# EAGLE library part SAM4C32C-144 (library OBD-Interface)
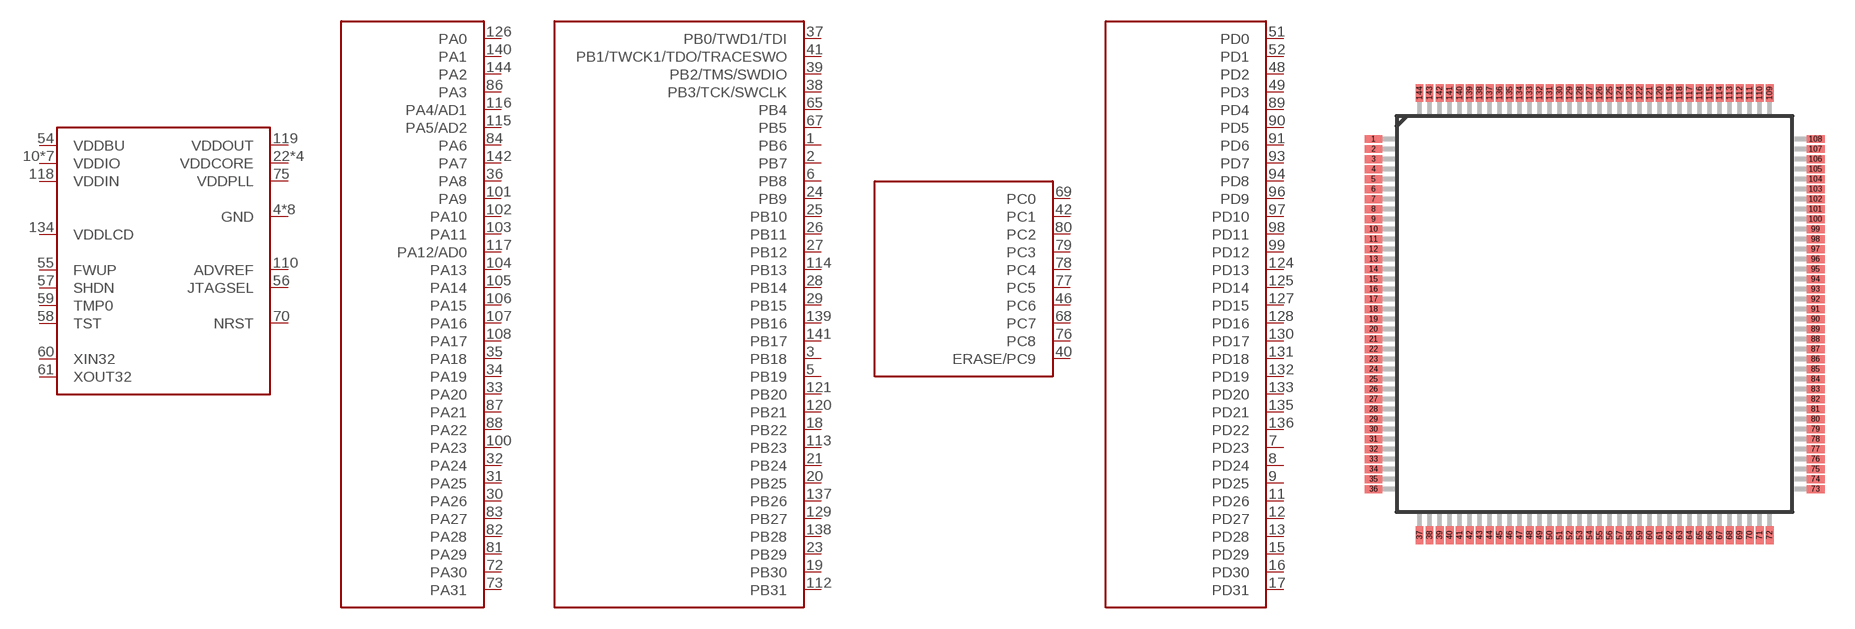
[diagram p1: symbol with the pads of LQFP-144; footprint LQFP-144]

Designator prefix -; gates G$1=SAM4C-144-POWER G$2=SAM4C-144-PIOA G$3=SAM4C-144-PIOB G$4=SAM4C-144-PIOC G$5=SAM4C-144-PIOD

## SAM4C32C-144  [LQFP-144]
1  G$3:PB6
2  G$3:PB7
3  G$3:PB18
4  G$1:GND  pwr
5  G$3:PB19
6  G$3:PB8
7  G$5:PD23
8  G$5:PD24
9  G$5:PD25
10  G$1:VDDIO  pwr
11  G$5:PD26
12  G$5:PD27
13  G$5:PD28
14  G$1:GND  pwr
15  G$5:PD29
16  G$5:PD30
17  G$5:PD31
18  G$3:PB22
19  G$3:PB30
20  G$3:PB25
21  G$3:PB24
22  G$1:VDDCORE  pwr
23  G$3:PB29
24  G$3:PB9
25  G$3:PB10
26  G$3:PB11
27  G$3:PB12
28  G$3:PB14
29  G$3:PB15
30  G$2:PA26
31  G$2:PA25
32  G$2:PA24
33  G$2:PA20
34  G$2:PA19
35  G$2:PA18
36  G$2:PA8
37  G$3:PB0/TWD1/TDI
38  G$3:PB3/TCK/SWCLK
39  G$3:PB2/TMS/SWDIO
40  G$4:ERASE/PC9
41  G$3:PB1/TWCK1/TDO/TRACESWO
42  G$4:PC1
46  G$4:PC6
47  G$1:VDDIO  pwr
48  G$5:PD2
49  G$5:PD3
50  G$1:GND  pwr
51  G$5:PD0
52  G$5:PD1
53  G$1:VDDIO  pwr
54  G$1:VDDBU  pwr
55  G$1:FWUP
56  G$1:JTAGSEL
57  G$1:SHDN
58  G$1:TST
59  G$1:TMP0
60  G$1:XIN32
61  G$1:XOUT32
64  G$1:GND  pwr
65  G$3:PB4
66  G$1:VDDCORE  pwr
67  G$3:PB5
68  G$4:PC7
69  G$4:PC0
70  G$1:NRST
71  G$1:VDDIO  pwr
72  G$2:PA30
73  G$2:PA31
74  G$1:GND  pwr
75  G$1:VDDPLL  pwr
76  G$4:PC8
77  G$4:PC5
78  G$4:PC4
79  G$4:PC3
80  G$4:PC2
81  G$2:PA29
82  G$2:PA28
83  G$2:PA27
84  G$2:PA6
85  G$1:VDDCORE  pwr
86  G$2:PA3
87  G$2:PA21
88  G$2:PA22
89  G$5:PD4
90  G$5:PD5
91  G$5:PD6
92  G$1:VDDIO  pwr
93  G$5:PD7
94  G$5:PD8
95  G$1:GND  pwr
96  G$5:PD9
97  G$5:PD10
98  G$5:PD11
99  G$5:PD12
100  G$2:PA23
101  G$2:PA9
102  G$2:PA10
103  G$2:PA11
104  G$2:PA13
105  G$2:PA14
106  G$2:PA15
107  G$2:PA16
108  G$2:PA17
109  G$1:VDDIO  pwr
110  G$1:ADVREF
111  G$1:GND  pwr
112  G$3:PB31
113  G$3:PB23
114  G$3:PB13
115  G$2:PA5/AD2
116  G$2:PA4/AD1
117  G$2:PA12/AD0
118  G$1:VDDIN  pwr
119  G$1:VDDOUT  pwr
120  G$3:PB21
121  G$3:PB20
122  G$1:GND  pwr
123  G$1:VDDCORE  pwr
124  G$5:PD13
125  G$5:PD14
126  G$2:PA0
127  G$5:PD15
128  G$5:PD16
129  G$3:PB27
130  G$5:PD17
131  G$5:PD18
132  G$5:PD19
133  G$5:PD20
134  G$1:VDDLCD  pwr
135  G$5:PD21
136  G$5:PD22
137  G$3:PB26
138  G$3:PB28
139  G$3:PB16
140  G$2:PA1
141  G$3:PB17
142  G$2:PA7
143  G$1:VDDIO  pwr
144  G$2:PA2

## Footprint LQFP-144 (pad centres in mm)
LQFP-144 Auto generated by make-symbol-device-package-bsdl.ulp Rev. 44
smd 0.9 x 0.4: 1 -11.05,8.75; 2 -11.05,8.25; 3 -11.05,7.75; 4 -11.05,7.25; 5 -11.05,6.75; 6 -11.05,6.25; 7 -11.05,5.75; 8 -11.05,5.25; 9 -11.05,4.75; 10 -11.05,4.25; 11 -11.05,3.75; 12 -11.05,3.25; 13 -11.05,2.75; 14 -11.05,2.25; 15 -11.05,1.75; 16 -11.05,1.25; 17 -11.05,0.75; 18 -11.05,0.25; 19 -11.05,-0.25; 20 -11.05,-0.75; 21 -11.05,-1.25; 22 -11.05,-1.75; 23 -11.05,-2.25; 24 -11.05,-2.75; 25 -11.05,-3.25; 26 -11.05,-3.75; 27 -11.05,-4.25; 28 -11.05,-4.75; 29 -11.05,-5.25; 30 -11.05,-5.75; 31 -11.05,-6.25; 32 -11.05,-6.75; 33 -11.05,-7.25; 34 -11.05,-7.75; 35 -11.05,-8.25; 36 -11.05,-8.75; 73 11.05,-8.75; 74 11.05,-8.25; 75 11.05,-7.75; 76 11.05,-7.25; 77 11.05,-6.75; 78 11.05,-6.25; 79 11.05,-5.75; 80 11.05,-5.25; 81 11.05,-4.75; 82 11.05,-4.25; 83 11.05,-3.75; 84 11.05,-3.25; 85 11.05,-2.75; 86 11.05,-2.25; 87 11.05,-1.75; 88 11.05,-1.25; 89 11.05,-0.75; 90 11.05,-0.25; 91 11.05,0.25; 92 11.05,0.75; 93 11.05,1.25; 94 11.05,1.75; 95 11.05,2.25; 96 11.05,2.75; 97 11.05,3.25; 98 11.05,3.75; 99 11.05,4.25; 100 11.05,4.75; 101 11.05,5.25; 102 11.05,5.75; 103 11.05,6.25; 104 11.05,6.75; 105 11.05,7.25; 106 11.05,7.75; 107 11.05,8.25; 108 11.05,8.75
smd 0.4 x 0.9: 37 -8.75,-11.05; 38 -8.25,-11.05; 39 -7.75,-11.05; 40 -7.25,-11.05; 41 -6.75,-11.05; 42 -6.25,-11.05; 43 -5.75,-11.05; 44 -5.25,-11.05; 45 -4.75,-11.05; 46 -4.25,-11.05; 47 -3.75,-11.05; 48 -3.25,-11.05; 49 -2.75,-11.05; 50 -2.25,-11.05; 51 -1.75,-11.05; 52 -1.25,-11.05; 53 -0.75,-11.05; 54 -0.25,-11.05; 55 0.25,-11.05; 56 0.75,-11.05; 57 1.25,-11.05; 58 1.75,-11.05; 59 2.25,-11.05; 60 2.75,-11.05; 61 3.25,-11.05; 62 3.75,-11.05; 63 4.25,-11.05; 64 4.75,-11.05; 65 5.25,-11.05; 66 5.75,-11.05; 67 6.25,-11.05; 68 6.75,-11.05; 69 7.25,-11.05; 70 7.75,-11.05; 71 8.25,-11.05; 72 8.75,-11.05; 109 8.75,11.05; 110 8.25,11.05; 111 7.75,11.05; 112 7.25,11.05; 113 6.75,11.05; 114 6.25,11.05; 115 5.75,11.05; 116 5.25,11.05; 117 4.75,11.05; 118 4.25,11.05; 119 3.75,11.05; 120 3.25,11.05; 121 2.75,11.05; 122 2.25,11.05; 123 1.75,11.05; 124 1.25,11.05; 125 0.75,11.05; 126 0.25,11.05; 127 -0.25,11.05; 128 -0.75,11.05; 129 -1.25,11.05; 130 -1.75,11.05; 131 -2.25,11.05; 132 -2.75,11.05; 133 -3.25,11.05; 134 -3.75,11.05; 135 -4.25,11.05; 136 -4.75,11.05; 137 -5.25,11.05; 138 -5.75,11.05; 139 -6.25,11.05; 140 -6.75,11.05; 141 -7.25,11.05; 142 -7.75,11.05; 143 -8.25,11.05; 144 -8.75,11.05